# EAGLE library part 38 (library display-lcd-lxd)
3.75 Numerical Digit, .30" (7.62) Multiplexed Display Additional Descriptors: Multimeter Functions
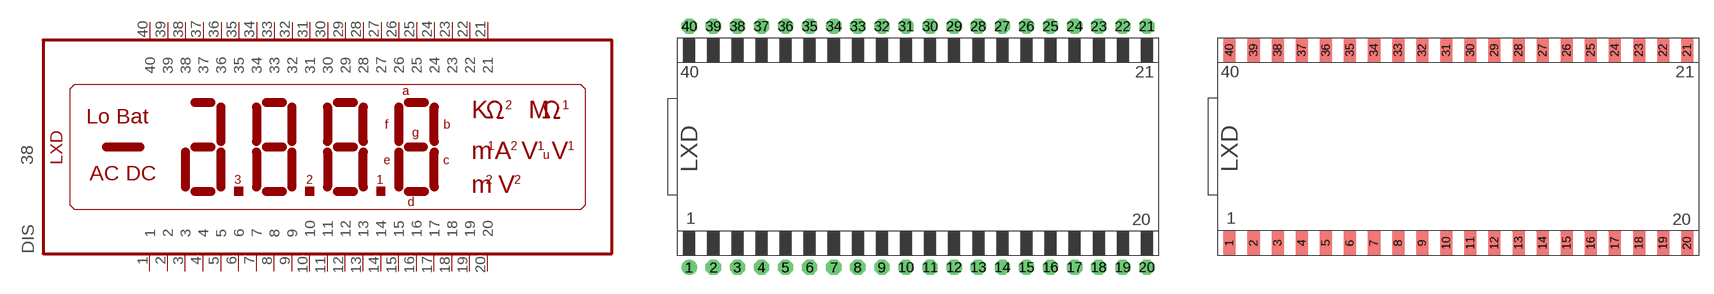
[diagram p31: symbol with the pads of 38-D; footprints 38-D, 38-E]

Designator prefix DIS

## 38DIP  [38-D]
1  1  pas
2  2  pas
3  3  pas
4  4  pas
5  5  pas
6  6  pas
7  7  pas
8  8  pas
9  9  pas
10  10  pas
11  11  pas
12  12  pas
13  13  pas
14  14  pas
15  15  pas
16  16  pas
17  17  pas
18  18  pas
19  19  pas
20  20  pas
21  21  pas
22  22  pas
23  23  pas
24  24  pas
25  25  pas
26  26  pas
27  27  pas
28  28  pas
29  29  pas
30  30  pas
31  31  pas
32  32  pas
33  33  pas
34  34  pas
35  35  pas
36  36  pas
37  37  pas
38  38  pas
39  39  pas
40  40  pas

## 38SMD  [38-E]
Pads as for 38-D

## Footprint 38-D (pad centres in mm)
Glass Size: 2.00" x 0.90" &nbsp &nbsp &nbsp &nbsp &nbsp &nbsp &nbsp &nbsp &nbsp (50.80 x 22.86)
drill 0.813 pad 1.6 round: 1 -24.13,-12.7
drill 0.813 pad 1.6 octagon: 2 -21.59,-12.7; 3 -19.05,-12.7; 4 -16.51,-12.7; 5 -13.97,-12.7; 6 -11.43,-12.7; 7 -8.89,-12.7; 8 -6.35,-12.7; 9 -3.81,-12.7; 10 -1.27,-12.7; 11 1.27,-12.7; 12 3.81,-12.7; 13 6.35,-12.7; 14 8.89,-12.7; 15 11.43,-12.7; 16 13.97,-12.7; 17 16.51,-12.7; 18 19.05,-12.7; 19 21.59,-12.7; 20 24.13,-12.7; 21 24.13,12.7; 22 21.59,12.7; 23 19.05,12.7; 24 16.51,12.7; 25 13.97,12.7; 26 11.43,12.7; 27 8.89,12.7; 28 6.35,12.7; 29 3.81,12.7; 30 1.27,12.7; 31 -1.27,12.7; 32 -3.81,12.7; 33 -6.35,12.7; 34 -8.89,12.7; 35 -11.43,12.7; 36 -13.97,12.7; 37 -16.51,12.7; 38 -19.05,12.7; 39 -21.59,12.7; 40 -24.13,12.7

## Footprint 38-E (pad centres in mm)
Glass Size: 2.00" x 0.90" &nbsp &nbsp &nbsp &nbsp &nbsp &nbsp &nbsp &nbsp &nbsp (50.80 x 22.86)
smd 1.27 x 2.54: 1 -24.13,-10.16; 2 -21.59,-10.16; 3 -19.05,-10.16; 4 -16.51,-10.16; 5 -13.97,-10.16; 6 -11.43,-10.16; 7 -8.89,-10.16; 8 -6.35,-10.16; 9 -3.81,-10.16; 10 -1.27,-10.16; 11 1.27,-10.16; 12 3.81,-10.16; 13 6.35,-10.16; 14 8.89,-10.16; 15 11.43,-10.16; 16 13.97,-10.16; 17 16.51,-10.16; 18 19.05,-10.16; 19 21.59,-10.16; 20 24.13,-10.16; 21 24.13,10.16; 22 21.59,10.16; 23 19.05,10.16; 24 16.51,10.16; 25 13.97,10.16; 26 11.43,10.16; 27 8.89,10.16; 28 6.35,10.16; 29 3.81,10.16; 30 1.27,10.16; 31 -1.27,10.16; 32 -3.81,10.16; 33 -6.35,10.16; 34 -8.89,10.16; 35 -11.43,10.16; 36 -13.97,10.16; 37 -16.51,10.16; 38 -19.05,10.16; 39 -21.59,10.16; 40 -24.13,10.16